# EAGLE library part TLP281-4GB(F) (library TLP281-4GB_F_)
Optocoupler DC-IN 4-CH Transistor DC-OUT 16-Pin SOP
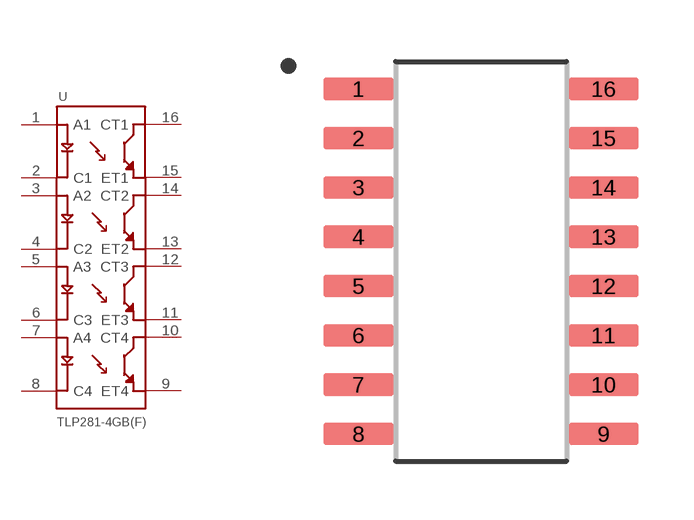
[diagram p0: symbol with the pads of SOIC127P700X210-16N; footprint SOIC127P700X210-16N]

Designator prefix U

## TLP281-4GB(F) (Availability: Unavailable; Description: Optocoupler DC-IN 4-CH Transistor DC-OUT 16-Pin SOP; MF: Toshiba; MP: TLP281-4GB_F_; Package: SOP-16 Toshiba; Price: None)  [SOIC127P700X210-16N]
1  A1  pas
2  C1  pas
3  A2  pas
4  C2  pas
5  A3  pas
6  C3  pas
7  A4  pas
8  C4  pas
9  ET4  pas
10  CT4  pas
11  ET3  pas
12  CT3  pas
13  ET2  pas
14  CT2  pas
15  ET1  pas
16  CT1  pas

## Footprint SOIC127P700X210-16N (pad centres in mm)
smd 1.8 x 0.59: 1 -3.155,4.445; 2 -3.155,3.175; 3 -3.155,1.905; 4 -3.155,0.635; 5 -3.155,-0.635; 6 -3.155,-1.905; 7 -3.155,-3.175; 8 -3.155,-4.445; 9 3.155,-4.445; 10 3.155,-3.175; 11 3.155,-1.905; 12 3.155,-0.635; 13 3.155,0.635; 14 3.155,1.905; 15 3.155,3.175; 16 3.155,4.445